# Altium integrated library rohm.IntLib: 1 symbol
Pins are listed as number, name and electrical type; pins without a type are passive.

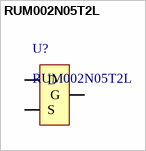
[diagram p0: symbol RUM002N05T2L]

## RUM002N05T2L
designator U?
MOSFET N-CH 50V 0.2A 3VMT
footprint Model Name (Footprint not found)
footprint RUM002N05T2L
pins: 1 G, 2 S, 3 D